# Altium schematic symbol library MySchLib.SchLib: 286 symbols (part 5 of 5)
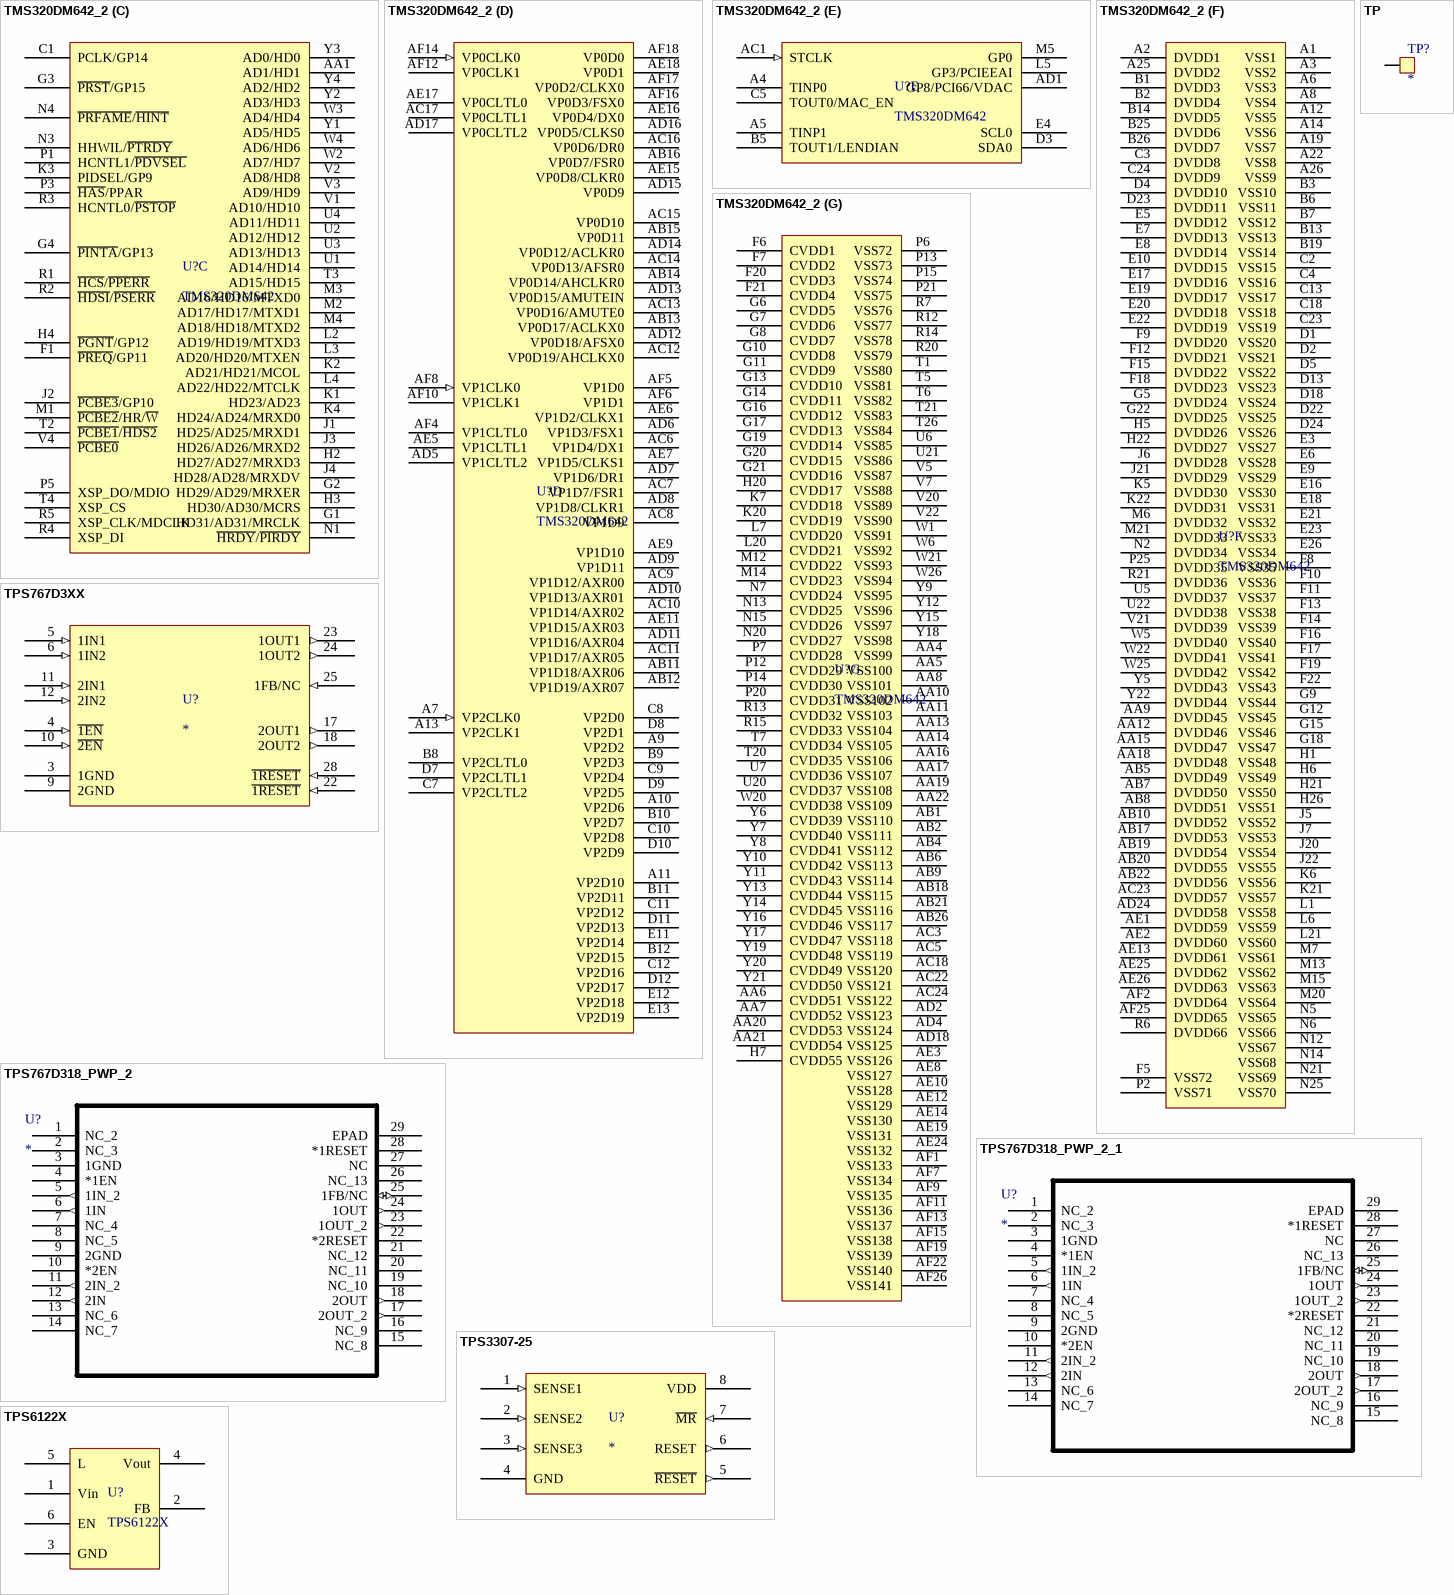
[diagram p33: symbols TMS320DM642_2 to TPS6122X]

## TMS320DM642_2
designator U?, comment TMS320DM642
footprint GDK (Footprint not found)
footprint GNZ (Footprint not found)
footprint ZDK (Footprint not found)
footprint ZNZ (Footprint not found)
footprint GDK548
part A pins: A15 EMU0, A16 TCK (in), A17 EMU7, A18 TDI (in), AA2 CLKMODE0 (in), AC2 CLKIN (in), AE4 CLKMODE1 (in), B4 NMI (in), B15 EMU2, B16 EMU5, B17 EMU9, B18 TDO (out), C6 CLKOUT6/GP2, C14 EMU1, C15 EMU3, C16 EMU6, C17 EMU10, D6 CLKOUT4/GP1, D14 ~{TRST} (in), D15 EMU4, D16 EMU8, D17 EMU11, E1 EXT_INT7/GP7, E2 PCIE_EN (in), E15 TMS (in), F2 EXT_INT6/GP6, F3 EXT_INT5/GP5, F4 EXT_INT4/GP4, P4 ~{REST} (in), V6 PLLV
part B pins: A20 AED13, A21 AED9, A23 AED5, A24 AED1, AA23 AED41, AA24 AED39, AA25 AED40, AA26 AED42, AB23 AED38, AB24 AED36, AB25 AED37, AC19 AED49, AC20 AED51, AC21 AED55, AC25 AED34, AC26 AED35, AD19 AED48, AD20 AED53, AD21 AED57, AD22 AED59, AD23 AED60, AD25 AED33, AD26 AED32, AE20 AED52, AE21 AED56, AE22 AED58, AE23 AED61, AF20 AED50, AF21 AED54, AF23 AED62, AF24 AED63, B20 AED11, B21 AED7, B22 AED3, B23 AED2, B24 AED0, C19 AED15, C20 AED10, C21 AED6, C22 AED4, C25 AED30, C26 AED31, D19 AED14, D20 AED12, D21 AED8, D25 AED28, D26 AED29, E24 AED27, E25 AED26, F23 AED23, F24 AED25, F25 AED24, F26 AED22, G23 AED19, G24 AED21, G25 AED20, G26 AED18, H23 AED17, H24 AED16, H25 AECLKIN (in), J23 AECLKOUT2, J24 ~{AAOE}/~{ASDRAS}/~{ASASOE}, J25 ~{AARE}/~{ASDCAS}/~{ASADS}/~{ASRE}, J26 AECLKOUT1, K23 ~{ACE2}, K24 ~{ACE1}, K25 ~{ACE0}, K26 ~{AAWE}/~{ASDWE}/~{ASWE}, L22 AARDY, L23 ~{ABE1}, L24 ~{ABE0}, L25 ASDCKE, L26 ~{ACE3}, M22 ~{APDT}, M23 AEA4, M24 AEA3, M25 ~{ABE3}, M26 ~{ABE2}, N22 ~{AHOLD}A, N23 AEA7, N24 AEA6, N26 AEA5, P22 ABUSREQ, P23 AEA10, P24 AEA9, P26 AEA8, R22 ~{ASOE3}, R23 AEA12, R24 AEA11, R25 ~{ABE5}, R26 ~{ABE4}, T22 ~{ABE7}, T23 ~{ABE6}, T24 AEA14, T25 AEA13, U23 AEA22, U24 AEA17, U25 AEA16, U26 AEA15, V23 AEA18, V24 AEA21, V25 AEA20, V26 AEA19, W23 AED47, W24 ~{AHOLD}, Y23 AED45, Y24 AED43, Y25 AED44, Y26 AED46
part C pins: AA1 AD1/HD1, C1 PCLK/GP14, F1 ~{PREQ}/GP11, G1 HD31/AD31/MRCLK, G2 HD29/AD29/MRXER, G3 ~{PRST}/GP15, G4 ~{PINTA}/GP13, H2 HD27/AD27/MRXD3, H3 HD30/AD30/MCRS, H4 ~{PGNT}/GP12, J1 HD25/AD25/MRXD1, J2 ~{PCBE3}/GP10, J3 HD26/AD26/MRXD2, J4 HD28/AD28/MRXDV, K1 HD23/AD23, K2 AD21/HD21/MCOL, K3 PIDSEL/GP9, K4 HD24/AD24/MRXD0, L2 AD19/HD19/MTXD3, L3 AD20/HD20/MTXEN, L4 AD22/HD22/MTCLK, M1 ~{PCBE2}/HR/~{W}, M2 AD17/HD17/MTXD1, M3 AD16/HD16/MTXD0, M4 AD18/HD18/MTXD2, N1 ~{HRDY}/~{PIRDY}, N3 HHWIL/~{PTRDY}, N4 ~{PRFAME}/~{HINT}, P1 HCNTL1/~{PDVSEL}, P3 ~{HAS}/PPAR, P5 XSP_DO/MDIO, R1 ~{HCS}/~{PPERR}, R2 ~{HDSI}/~{PSERR}, R3 HCNTL0/~{PSTOP}, R4 XSP_DI, R5 XSP_CLK/MDCLK, T2 ~{PCBE1}/~{HDS2}, T3 AD15/HD15, T4 XSP_CS, U1 AD14/HD14, U2 AD12/HD12, U3 AD13/HD13, U4 AD11/HD11, V1 AD10/HD10, V2 AD8/HD8, V3 AD9/HD9, V4 ~{PCBE0}, W2 AD7/HD7, W3 AD4/HD4, W4 AD6/HD6, Y1 AD5/HD5, Y2 AD3/HD3, Y3 AD0/HD0, Y4 AD2/HD2
part D pins: A7 VP2CLK0 (in), A9 VP2D2, A10 VP2D6, A11 VP2D10, A13 VP2CLK1, AB11 VP1D18/AXR06, AB12 VP1D19/AXR07, AB13 VP0D17/ACLKX0, AB14 VP0D14/AHCLKR0, AB15 VP0D11, AB16 VP0D7/FSR0, AC6 VP1D4/DX1, AC7 VP1D7/FSR1, AC8 VP1D9, AC9 VP1D12/AXR00, AC10 VP1D14/AXR02, AC11 VP1D17/AXR05, AC12 VP0D19/AHCLKX0, AC13 VP0D16/AMUTE0, AC14 VP0D13/AFSR0, AC15 VP0D10, AC16 VP0D6/DR0, AC17 VP0CLTL1, AD5 VP1CLTL2, AD6 VP1D3/FSX1, AD7 VP1D6/DR1, AD8 VP1D8/CLKR1, AD9 VP1D11, AD10 VP1D13/AXR01, AD11 VP1D16/AXR04, AD12 VP0D18/AFSX0, AD13 VP0D15/AMUTEIN, AD14 VP0D12/ACLKR0, AD15 VP0D9, AD16 VP0D5/CLKS0, AD17 VP0CLTL2, AE5 VP1CLTL1, AE6 VP1D2/CLKX1, AE7 VP1D5/CLKS1, AE9 VP1D10, AE11 VP1D15/AXR03, AE15 VP0D8/CLKR0, AE16 VP0D4/DX0, AE17 VP0CLTL0, AE18 VP0D1, AF4 VP1CLTL0, AF5 VP1D0, AF6 VP1D1, AF8 VP1CLK0 (in), AF10 VP1CLK1, AF12 VP0CLK1, AF14 VP0CLK0 (in), AF16 VP0D3/FSX0, AF17 VP0D2/CLKX0, AF18 VP0D0, B8 VP2CLTL0, B9 VP2D3, B10 VP2D7, B11 VP2D11, B12 VP2D15, C7 VP2CLTL2, C8 VP2D0, C9 VP2D4, C10 VP2D8, C11 VP2D12, C12 VP2D16, D7 VP2CLTL1, D8 VP2D1, D9 VP2D5, D10 VP2D9, D11 VP2D13, D12 VP2D17, E11 VP2D14, E12 VP2D18, E13 VP2D19
part E pins: A4 TINP0, A5 TINP1, AC1 STCLK (in), AD1 GP8/PCI66/VDAC, B5 TOUT1/LENDIAN, C5 TOUT0/MAC_EN, D3 SDA0, E4 SCL0, L5 GP3/PCIEEAI, M5 GP0
part F pins: A1 VSS1 (power), A2 DVDD1 (power), A3 VSS2 (power), A6 VSS3 (power), A8 VSS4 (power), A12 VSS5 (power), A14 VSS6 (power), A19 VSS7 (power), A22 VSS8 (power), A25 DVDD2 (power), A26 VSS9 (power), AA9 DVDD45 (power), AA12 DVDD46 (power), AA15 DVDD47 (power), AA18 DVDD48 (power), AB5 DVDD49 (power), AB7 DVDD50 (power), AB8 DVDD51 (power), AB10 DVDD52 (power), AB17 DVDD53 (power), AB19 DVDD54 (power), AB20 DVDD55 (power), AB22 DVDD56 (power), AC23 DVDD57 (power), AD24 DVDD58 (power), AE1 DVDD59 (power), AE2 DVDD60 (power), AE13 DVDD61 (power), AE25 DVDD62 (power), AE26 DVDD63 (power), AF2 DVDD64 (power), AF25 DVDD65 (power), B1 DVDD3 (power), B2 DVDD4 (power), B3 VSS10 (power), B6 VSS11 (power), B7 VSS12 (power), B13 VSS13 (power), B14 DVDD5 (power), B19 VSS14 (power), B25 DVDD6 (power), B26 DVDD7 (power), C2 VSS15 (power), C3 DVDD8 (power), C4 VSS16 (power), C13 VSS17 (power), C18 VSS18 (power), C23 VSS19 (power), C24 DVDD9 (power), D1 VSS20 (power), D2 VSS21 (power), D4 DVDD10 (power), D5 VSS22 (power), D13 VSS23 (power), D18 VSS24 (power), D22 VSS25 (power), D23 DVDD11 (power), D24 VSS26 (power), E3 VSS27 (power), E5 DVDD12 (power), E6 VSS28 (power), E7 DVDD13 (power), E8 DVDD14 (power), E9 VSS29 (power), E10 DVDD15 (power), E16 VSS30 (power), E17 DVDD16 (power), E18 VSS31 (power), E19 DVDD17 (power), E20 DVDD18 (power), E21 VSS32 (power), E22 DVDD19 (power), E23 VSS33 (power), E26 VSS34 (power), F5 VSS72 (power), F8 VSS35 (power), F9 DVDD20 (power), F10 VSS36 (power), F11 VSS37 (power), F12 DVDD21 (power), F13 VSS38 (power), F14 VSS39 (power), F15 DVDD22 (power), F16 VSS40 (power), F17 VSS41 (power), F18 DVDD23 (power), F19 VSS42 (power), F22 VSS43 (power), G5 DVDD24 (power), G9 VSS44 (power), G12 VSS45 (power), G15 VSS46 (power), G18 VSS47 (power), G22 DVDD25 (power), H1 VSS48 (power), H5 DVDD26 (power), H6 VSS49 (power), H21 VSS50 (power), H22 DVDD27 (power), H26 VSS51 (power), J5 VSS52 (power), J6 DVDD28 (power), J7 VSS53 (power), J20 VSS54 (power), J21 DVDD29 (power), J22 VSS55 (power), K5 DVDD30 (power), K6 VSS56 (power), K21 VSS57 (power), K22 DVDD31 (power), L1 VSS58 (power), L6 VSS59 (power), L21 VSS60 (power), M6 DVDD32 (power), M7 VSS61 (power), M13 VSS62 (power), M15 VSS63 (power), M20 VSS64 (power), M21 DVDD33 (power), N2 DVDD34 (power), N5 VSS65 (power), N6 VSS66 (power), N12 VSS67 (power), N14 VSS68 (power), N21 VSS69 (power), N25 VSS70 (power), P2 VSS71 (power), P25 DVDD35 (power), R6 DVDD66 (power), R21 DVDD36 (power), U5 DVDD37 (power), U22 DVDD38 (power), V21 DVDD39 (power), W5 DVDD40 (power), W22 DVDD41 (power), W25 DVDD42 (power), Y5 DVDD43 (power), Y22 DVDD44 (power)
part G pins: AA4 VSS99 (power), AA5 VSS100 (power), AA6 CVDD51 (power), AA7 CVDD52 (power), AA8 VSS101 (power), AA10 VSS102 (power), AA11 VSS103 (power), AA13 VSS104 (power), AA14 VSS105 (power), AA16 VSS106 (power), AA17 VSS107 (power), AA19 VSS108 (power), AA20 CVDD53 (power), AA21 CVDD54 (power), AA22 VSS109 (power), AB1 VSS110 (power), AB2 VSS111 (power), AB4 VSS112 (power), AB6 VSS113 (power), AB9 VSS114 (power), AB18 VSS115 (power), AB21 VSS116 (power), AB26 VSS117 (power), AC3 VSS118 (power), AC5 VSS119 (power), AC18 VSS120 (power), AC22 VSS121 (power), AC24 VSS122 (power), AD2 VSS123 (power), AD4 VSS124 (power), AD18 VSS125 (power), AE3 VSS126 (power), AE8 VSS127 (power), AE10 VSS128 (power), AE12 VSS129 (power), AE14 VSS130 (power), AE19 VSS131 (power), AE24 VSS132 (power), AF1 VSS133 (power), AF7 VSS134 (power), AF9 VSS135 (power), AF11 VSS136 (power), AF13 VSS137 (power), AF15 VSS138 (power), AF19 VSS139 (power), AF22 VSS140 (power), AF26 VSS141 (power), F6 CVDD1, F7 CVDD2, F20 CVDD3 (power), F21 CVDD4 (power), G6 CVDD5 (power), G7 CVDD6 (power), G8 CVDD7 (power), G10 CVDD8 (power), G11 CVDD9 (power), G13 CVDD10 (power), G14 CVDD11 (power), G16 CVDD12 (power), G17 CVDD13 (power), G19 CVDD14 (power), G20 CVDD15 (power), G21 CVDD16 (power), H7 CVDD55 (power), H20 CVDD17 (power), K7 CVDD18 (power), K20 CVDD19 (power), L7 CVDD20 (power), L20 CVDD21 (power), M12 CVDD22 (power), M14 CVDD23 (power), N7 CVDD24 (power), N13 CVDD25 (power), N15 CVDD26 (power), N20 CVDD27 (power), P6 VSS72 (power), P7 CVDD28 (power), P12 CVDD29 (power), P13 VSS73 (power), P14 CVDD30 (power), P15 VSS74 (power), P20 CVDD31 (power), P21 VSS75 (power), R7 VSS76 (power), R12 VSS77 (power), R13 CVDD32 (power), R14 VSS78 (power), R15 CVDD33 (power), R20 VSS79 (power), T1 VSS80 (power), T5 VSS81 (power), T6 VSS82 (power), T7 CVDD34 (power), T20 CVDD35 (power), T21 VSS83 (power), T26 VSS84 (power), U6 VSS85 (power), U7 CVDD36 (power), U20 CVDD37 (power), U21 VSS86 (power), V5 VSS87 (power), V7 VSS88 (power), V20 VSS89 (power), V22 VSS90 (power), W1 VSS91 (power), W6 VSS92 (power), W20 CVDD38 (power), W21 VSS93 (power), W26 VSS94 (power), Y6 CVDD39 (power), Y7 CVDD40 (power), Y8 CVDD41 (power), Y9 VSS95 (power), Y10 CVDD42 (power), Y11 CVDD43 (power), Y12 VSS96 (power), Y13 CVDD44 (power), Y14 CVDD45 (power), Y15 VSS97 (power), Y16 CVDD46 (power), Y17 CVDD47 (power), Y18 VSS98 (power), Y19 CVDD48 (power), Y20 CVDD49 (power), Y21 CVDD50 (power)

## TP
designator TP?
Test Point
footprint TP (Footprint not found)
pins: 1

## TPS767D3XX
designator U?
footprint PWP-SSOP28 (Footprint not found)
pins: 3 1GND (power), 4 ~{1EN} (in), 5 1IN1 (in), 6 1IN2 (in), 9 2GND (power), 10 ~{2EN} (in), 11 2IN1 (in), 12 2IN2 (in), 17 2OUT1 (out), 18 2OUT2 (out), 22 ~{1RESET} (in), 23 1OUT1 (out), 24 1OUT2 (out), 25 1FB/NC (in), 28 ~{1RESET} (in)

## TPS767D318_PWP_2
designator U?
Imported
footprint PWP28_6P46X2P4
pins: 1 NC_2, 2 NC_3, 3 1GND (power), 4 *1EN, 5 1IN_2 (out), 6 1IN (out), 7 NC_4, 8 NC_5, 9 2GND (power), 10 *2EN, 11 2IN_2 (out), 12 2IN (out), 13 NC_6, 14 NC_7, 15 NC_8, 16 NC_9, 17 2OUT_2 (out), 18 2OUT (out), 19 NC_10, 20 NC_11, 21 NC_12, 22 *2RESET, 23 1OUT_2 (out), 24 1OUT (out), 25 1FB/NC (io), 26 NC_13, 27 NC, 28 *1RESET, 29 EPAD

## TPS767D318_PWP_2_1
designator U?
Imported
footprint PWP28_6P46X2P4
pins: 1 NC_2, 2 NC_3, 3 1GND (power), 4 *1EN, 5 1IN_2 (out), 6 1IN (out), 7 NC_4, 8 NC_5, 9 2GND (power), 10 *2EN, 11 2IN_2 (out), 12 2IN (out), 13 NC_6, 14 NC_7, 15 NC_8, 16 NC_9, 17 2OUT_2 (out), 18 2OUT (out), 19 NC_10, 20 NC_11, 21 NC_12, 22 *2RESET, 23 1OUT_2 (out), 24 1OUT (out), 25 1FB/NC (io), 26 NC_13, 27 NC, 28 *1RESET, 29 EPAD

## TPS3307-25
designator U?
footprint SOP-8
pins: 1 SENSE1 (in), 2 SENSE2 (in), 3 SENSE3 (in), 4 GND (power), 5 ~{RESET} (out), 6 RESET (out), 7 ~{MR} (in), 8 VDD (power)

## TPS6122X
designator U?
footprint SSOP-6 (Footprint not found)
pins: 1 Vin, 2 FB, 3 GND, 4 Vout, 5 L, 6 EN

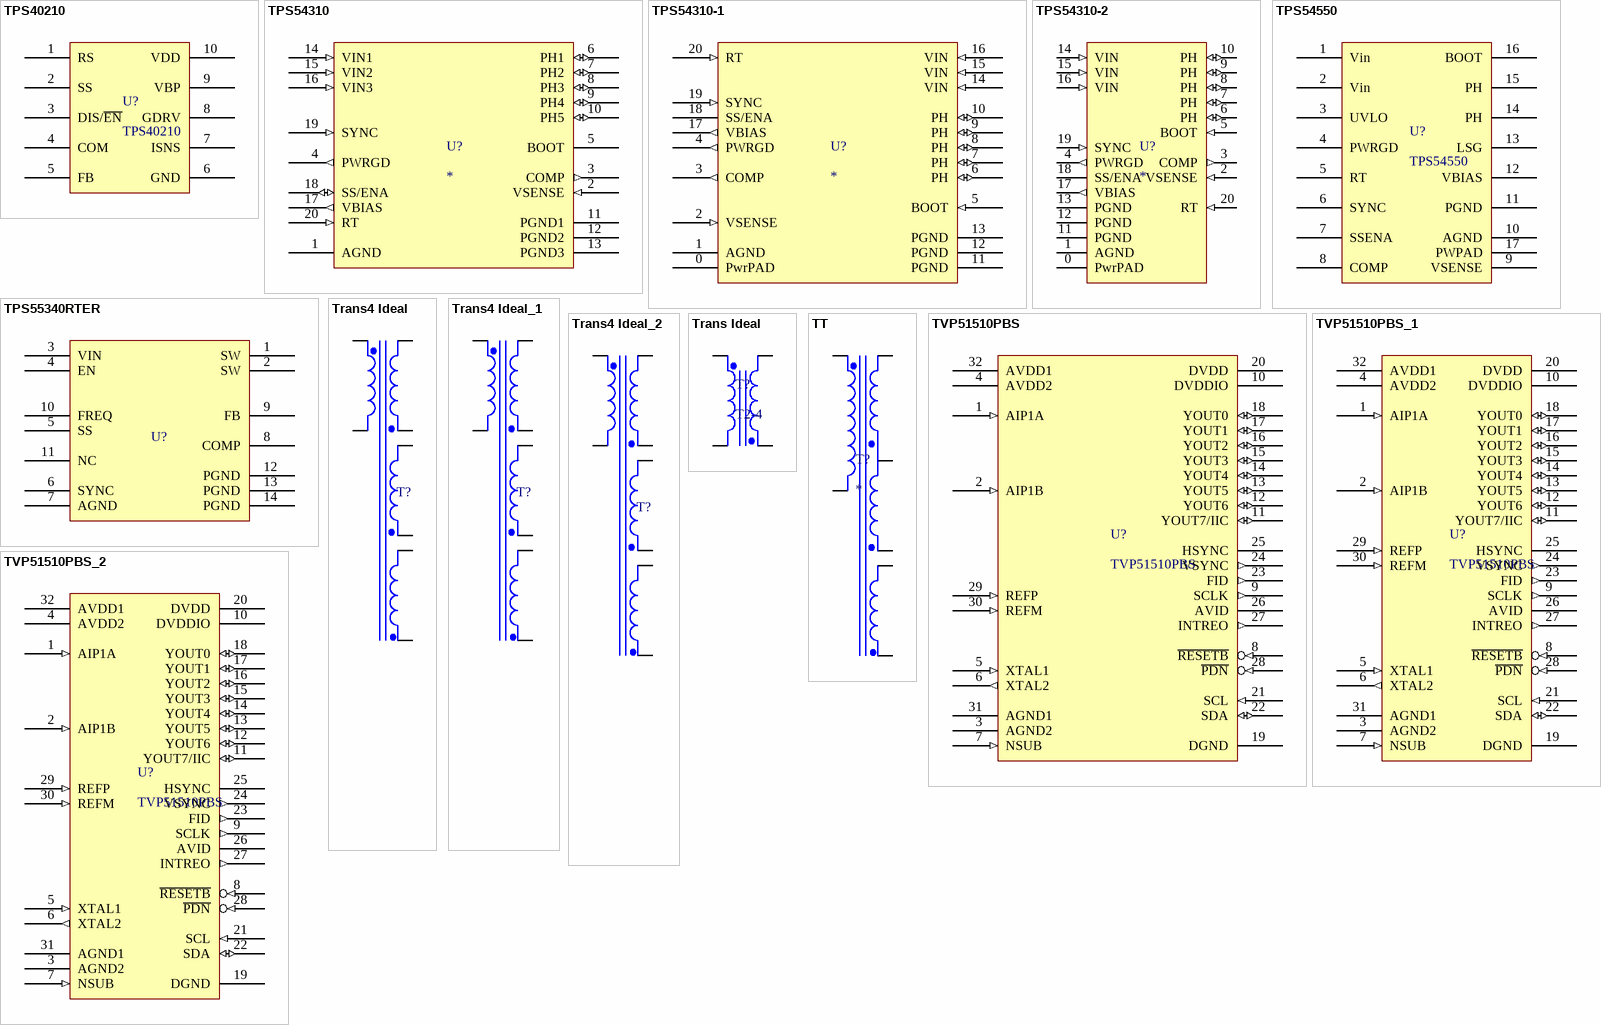
[diagram p28: symbols TPS40210 to TVP51510PBS_2]

## TPS40210
designator U?
footprint SSOP10 (Footprint not found)
footprint TSSOP10 (Footprint not found)
pins: 1 RS, 2 SS, 3 DIS/~{EN}, 4 COM, 5 FB, 6 GND, 7 ISNS, 8 GDRV, 9 VBP, 10 VDD

## TPS54310
designator U?
footprint PWP-SSOP-20
pins: 1 AGND (power), 2 VSENSE (in), 3 COMP (out), 4 PWRGD (out), 5 BOOT, 6 PH1 (io), 7 PH2 (io), 8 PH3 (io), 9 PH4 (io), 10 PH5 (io), 11 PGND1 (power), 12 PGND2 (power), 13 PGND3 (power), 14 VIN1 (in), 15 VIN2 (in), 16 VIN3 (in), 17 VBIAS (out), 18 SS/ENA (io), 19 SYNC (in), 20 RT (in)

## TPS54310-1
designator U?
footprint PWP-SSOP-20
pins: 0 PwrPAD (power), 1 AGND (power), 2 VSENSE (in), 3 COMP (out), 4 PWRGD (out), 5 BOOT (in), 6 PH (io), 7 PH (io), 8 PH (io), 9 PH (io), 10 PH (io), 11 PGND (power), 12 PGND (power), 13 PGND (power), 14 VIN (in), 15 VIN (in), 16 VIN (in), 17 VBIAS (out), 18 SS/ENA, 19 SYNC (in), 20 RT (in)

## TPS54310-2
designator U?
footprint PWP-SSOP-20
pins: 0 PwrPAD (power), 1 AGND (power), 2 VSENSE (in), 3 COMP (out), 4 PWRGD (out), 5 BOOT (in), 6 PH (io), 7 PH (io), 8 PH (io), 9 PH (io), 10 PH (io), 11 PGND (power), 12 PGND (power), 13 PGND (power), 14 VIN (in), 15 VIN (in), 16 VIN (in), 17 VBIAS (out), 18 SS/ENA, 19 SYNC (in), 20 RT (in)

## TPS54550
designator U?
footprint PWP-SSOP-20
pins: 1 Vin "VI3 接口的数据DAT0", 2 Vin "VI3 接口的数据DAT0", 3 UVLO "VI3 接口的数据DAT0", 4 PWRGD "VI3 接口的数据DAT0", 5 RT "VI3 接口的数据DAT0", 6 SYNC "VI3 接口的数据DAT0", 7 SSENA "VI3 接口的数据DAT0", 8 COMP "VI3 接口的数据DAT0", 9 VSENSE "VI3 接口的数据DAT0", 10 AGND "VI3 接口的数据DAT0", 11 PGND "VI3 接口的数据DAT0", 12 VBIAS "VI3 接口的数据DAT0", 13 LSG "VI3 接口的数据DAT0", 14 PH "VI3 接口的数据DAT0", 15 PH "VI3 接口的数据DAT0", 16 BOOT "VI3 接口的数据DAT0", 17 PWPAD "VI3 接口的数据DAT0"

## TPS55340RTER
designator U?  (value not drawn)
Manufacturer Name: Texas Instruments; Value: UNLISTED; Manufacturer Part Number: TPS55340RTER
footprint TSSOP-14
pins: 1 SW, 2 SW, 3 VIN, 4 EN, 5 SS, 6 SYNC, 7 AGND, 8 COMP, 9 FB, 10 FREQ, 11 NC, 12 PGND, 13 PGND, 14 PGND

## Trans4 Ideal
designator T?
Four-winding Transformer (Ideal); Published: 25-Jan-2001; LatestRevisionDate: 17-Jul-2002; LatestRevisionNote: Re-released for DXP Platform.; PackageReference: TRF_8; Publisher: Altium Limited
footprint TRF_8 (Four-winding Transformer (Ideal); 8 Leads)
simulation model IDEAL4W (Spice Subcircuit)
pins: 1 Pri+, 2 Pri-, 3 Sec1+, 4 Sec1-, 5 Sec2+, 6 Sec2-, 7 Sec3+, 8 Sec3-

## Trans4 Ideal_1
designator T?
Four-winding Transformer (Ideal); Published: 25-Jan-2001; LatestRevisionDate: 17-Jul-2002; LatestRevisionNote: Re-released for DXP Platform.; PackageReference: TRF_8; Publisher: Altium Limited
footprint TRF_8 (Four-winding Transformer (Ideal); 8 Leads)
simulation model IDEAL4W (Spice Subcircuit)
pins: 1 Pri+, 2 Pri-, 3 Sec1+, 4 Sec1-, 5 Sec2+, 6 Sec2-, 7 Sec3+, 8 Sec3-

## Trans4 Ideal_2
designator T?
Four-winding Transformer (Ideal); Published: 25-Jan-2001; LatestRevisionDate: 17-Jul-2002; LatestRevisionNote: Re-released for DXP Platform.; PackageReference: TRF_8; Publisher: Altium Limited
footprint TRF_8 (Four-winding Transformer (Ideal); 8 Leads)
simulation model IDEAL4W (Spice Subcircuit)
pins: 1 Pri+, 2 Pri-, 3 Sec1+, 4 Sec1-, 5 Sec2+, 6 Sec2-, 7 Sec3+, 8 Sec3-

## Trans Ideal
designator T?, comment T2-4
pins: 1 Pri+, 2 Pri-, 3 Sec+, 4 Sec-

## TT
designator T?
pins: 1 Pri+, 2 Pri-, 3 Sec1+, 4 Sec1-, 6 Sec2-, 7 Sec3+, 8 Sec3-

## TVP51510PBS
designator U?
TVP5150PBS Ultralow-Power  NTSC/PAL Video Decoder
pins: 1 AIP1A (in), 2 AIP1B (in), 3 AGND2 (power), 4 AVDD2 (power), 5 XTAL1 (in), 6 XTAL2 (out), 7 NSUB (in), 8 ~{RESETB} (in), 9 SCLK (out), 10 DVDDIO (power), 11 YOUT7/IIC (io), 12 YOUT6 (io), 13 YOUT5 (io), 14 YOUT4 (io), 15 YOUT3 (io), 16 YOUT2 (io), 17 YOUT1 (io), 18 YOUT0 (io), 19 DGND (power), 20 DVDD (power), 21 SCL (in), 22 SDA (io), 23 FID (out), 24 VSYNC (out), 25 HSYNC (power), 26 AVID, 27 INTREO (out), 28 ~{PDN} (in), 29 REFP (in), 30 REFM (in), 31 AGND1 (power), 32 AVDD1 (power)

## TVP51510PBS_1
designator U?, comment TVP51510PBS
TVP5150PBS Ultralow-Power  NTSC/PAL Video Decoder
pins: 1 AIP1A (in), 2 AIP1B (in), 3 AGND2 (power), 4 AVDD2 (power), 5 XTAL1 (in), 6 XTAL2 (out), 7 NSUB (in), 8 ~{RESETB} (in), 9 SCLK (out), 10 DVDDIO (power), 11 YOUT7/IIC (io), 12 YOUT6 (io), 13 YOUT5 (io), 14 YOUT4 (io), 15 YOUT3 (io), 16 YOUT2 (io), 17 YOUT1 (io), 18 YOUT0 (io), 19 DGND (power), 20 DVDD (power), 21 SCL (in), 22 SDA (io), 23 FID (out), 24 VSYNC (out), 25 HSYNC (power), 26 AVID, 27 INTREO (out), 28 ~{PDN} (in), 29 REFP (in), 30 REFM (in), 31 AGND1 (power), 32 AVDD1 (power)

## TVP51510PBS_2
designator U?, comment TVP51510PBS
TVP5150PBS Ultralow-Power  NTSC/PAL Video Decoder
pins: 1 AIP1A (in), 2 AIP1B (in), 3 AGND2 (power), 4 AVDD2 (power), 5 XTAL1 (in), 6 XTAL2 (out), 7 NSUB (in), 8 ~{RESETB} (in), 9 SCLK (out), 10 DVDDIO (power), 11 YOUT7/IIC (io), 12 YOUT6 (io), 13 YOUT5 (io), 14 YOUT4 (io), 15 YOUT3 (io), 16 YOUT2 (io), 17 YOUT1 (io), 18 YOUT0 (io), 19 DGND (power), 20 DVDD (power), 21 SCL (in), 22 SDA (io), 23 FID (out), 24 VSYNC (out), 25 HSYNC (power), 26 AVID, 27 INTREO (out), 28 ~{PDN} (in), 29 REFP (in), 30 REFM (in), 31 AGND1 (power), 32 AVDD1 (power)

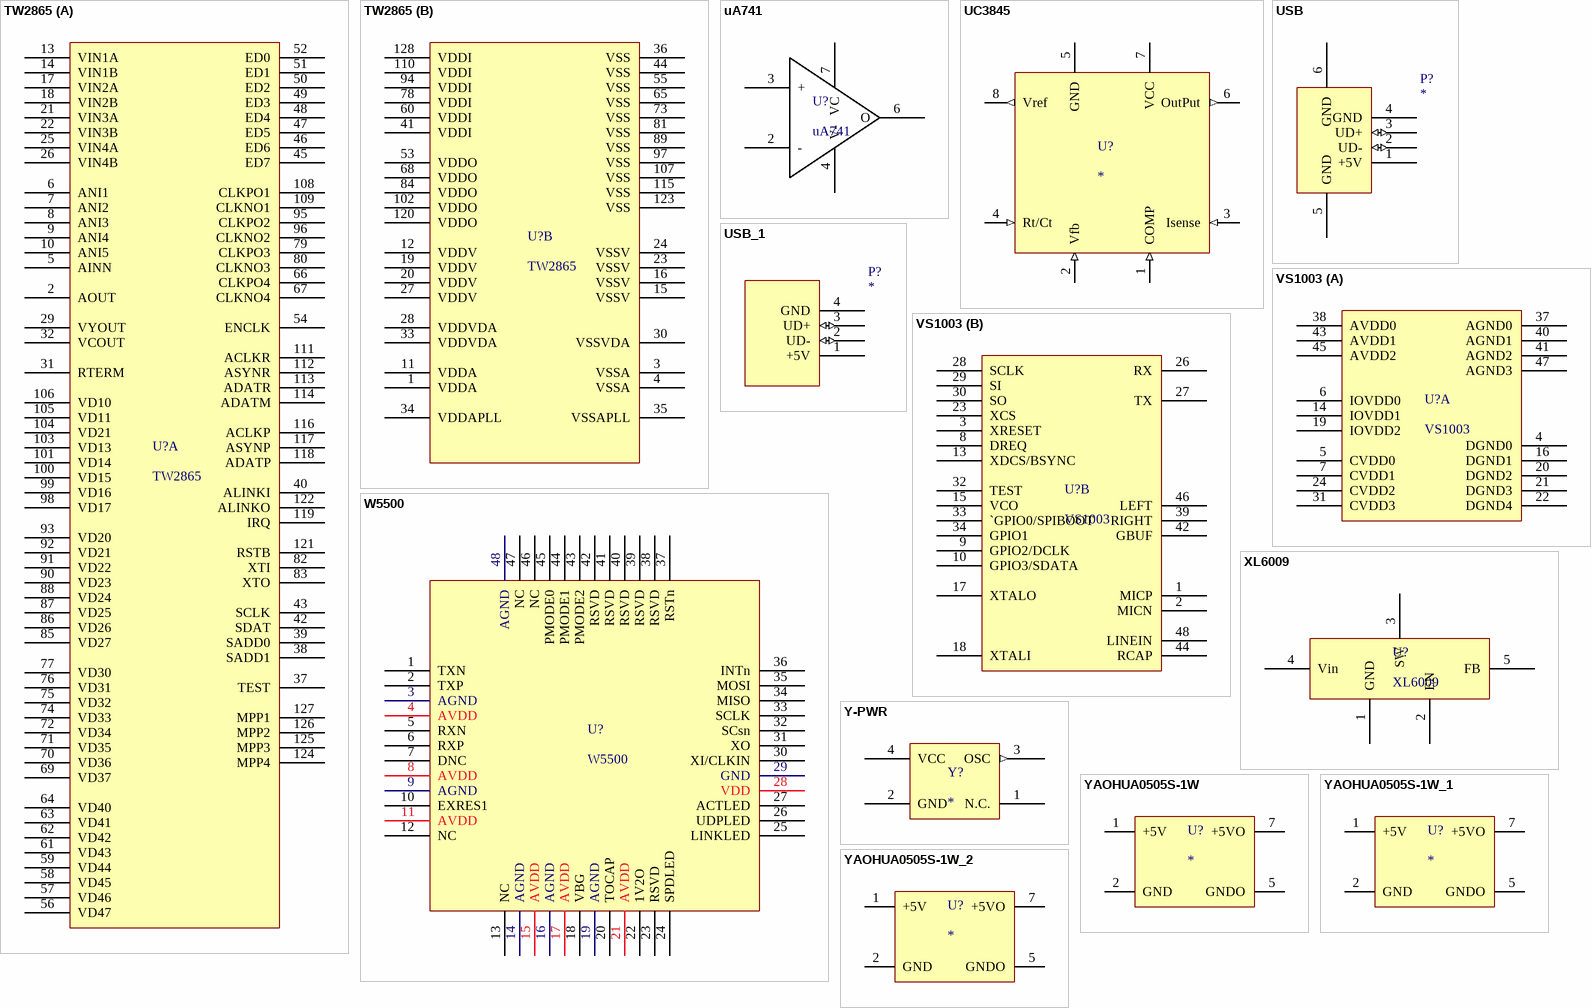
[diagram p29: symbols TW2865 to YAOHUA0505S-1W_2]

## TW2865
designator U?
footprint LQFP128 (Footprint not found)
part A pins: 2 AOUT, 5 AINN, 6 ANI1, 7 ANI2, 8 ANI3, 9 ANI4, 10 ANI5, 13 VIN1A, 14 VIN1B, 17 VIN2A , 18 VIN2B, 21 VIN3A, 22 VIN3B, 25 VIN4A, 26 VIN4B, 29 VYOUT, 31 RTERM, 32 VCOUT, 37 TEST, 38 SADD1, 39 SADD0, 40 ALINKI, 42 SDAT, 43 SCLK, 45 ED7, 46 ED6, 47 ED5, 48 ED4, 49 ED3, 50 ED2, 51 ED1, 52 ED0, 54 ENCLK, 56 VD47, 57 VD46, 58 VD45, 59 VD44, 61 VD43, 62 VD42, 63 VD41, 64 VD40, 66 CLKPO4, 67 CLKNO4, 69 VD37, 70 VD36, 71 VD35, 72 VD34, 74 VD33, 75 VD32, 76 VD31, 77 VD30, 79 CLKPO3, 80 CLKNO3, 82 XTI, 83 XTO, 85 VD27, 86 VD26, 87 VD25, 88 VD24, 90 VD23, 91 VD22, 92 VD21, 93 VD20, 95 CLKPO2, 96 CLKNO2, 98 VD17, 99 VD16, 100 VD15, 101 VD14, 103 VD13, 104 VD21, 105 VD11, 106 VD10, 108 CLKPO1, 109 CLKNO1, 111 ACLKR, 112 ASYNR, 113 ADATR, 114 ADATM, 116 ACLKP, 117 ASYNP, 118 ADATP, 119 IRQ, 121 RSTB, 122 ALINKO, 124 MPP4, 125 MPP3, 126 MPP2, 127 MPP1
part B pins: 1 VDDA, 3 VSSA, 4 VSSA, 11 VDDA, 12 VDDV, 15 VSSV, 16 VSSV, 19 VDDV, 20 VDDV, 23 VSSV, 24 VSSV, 27 VDDV, 28 VDDVDA, 30 VSSVDA, 33 VDDVDA, 34 VDDAPLL, 35 VSSAPLL, 36 VSS, 41 VDDI, 44 VSS, 53 VDDO, 55 VSS, 60 VDDI, 65 VSS, 68 VDDO, 73 VSS, 78 VDDI, 81 VSS, 84 VDDO, 89 VSS, 94 VDDI, 97 VSS, 102 VDDO, 107 VSS, 110 VDDI, 115 VSS, 120 VDDO, 123 VSS, 128 VDDI

## uA741
designator U?
footprint SOP-8
pins: 1 hidden, 2 -, 3 +, 4 V-, 5 hidden, 6 O, 7 VC, 8 hidden

## UC3845
designator U?
footprint SOIC-8 (Footprint not found)
pins: 1 COMP (in), 2 Vfb (in), 3 Isense (in), 4 Rt/Ct (in), 5 GND (power), 6 OutPut (out), 7 VCC (power), 8 Vref (out)

## USB
designator P?
USB Port
footprint USBA
footprint USBB
pins: 1 +5V (power), 2 UD- (io), 3 UD+ (io), 4 GND (power), 5 GND (power), 6 GND (power)

## USB_1
designator P?
USB Port
footprint USBA
footprint USBB
pins: 1 +5V (power), 2 UD- (io), 3 UD+ (io), 4 GND (power), 5 GND (power) hidden, 6 GND (power) hidden

## VS1003
designator U?
footprint LQFP-48 (Footprint not found)
part A pins: 4 DGND0, 5 CVDD0, 6 IOVDD0, 7 CVDD1, 14 IOVDD1, 16 DGND1, 19 IOVDD2, 20 DGND2, 21 DGND3, 22 DGND4, 24 CVDD2, 31 CVDD3, 37 AGND0, 38 AVDD0, 40 AGND1, 41 AGND2, 43 AVDD1, 45 AVDD2, 47 AGND3
part B pins: 1 MICP, 2 MICN, 3 XRESET, 8 DREQ, 9 GPIO2/DCLK, 10 GPIO3/SDATA, 13 XDCS/BSYNC, 15 VCO, 17 XTALO, 18 XTALI, 23 XCS, 26 RX, 27 TX, 28 SCLK, 29 SI, 30 SO, 32 TEST, 33 `GPIO0/SPIBOOT, 34 GPIO1, 39 RIGHT, 42 GBUF, 44 RCAP, 46 LEFT, 48 LINEIN

## W5500
designator U?
footprint LQFP-48
pins: 1 TXN, 2 TXP, 3 AGND, 4 AVDD, 5 RXN, 6 RXP, 7 DNC, 8 AVDD, 9 AGND, 10 EXRES1, 11 AVDD, 12 NC, 13 NC, 14 AGND, 15 AVDD, 16 AGND, 17 AVDD, 18 VBG, 19 AGND, 20 TOCAP, 21 AVDD, 22 1V2O, 23 RSVD, 24 SPDLED, 25 LINKLED, 26 UDPLED, 27 ACTLED, 28 VDD, 29 GND, 30 XI/CLKIN, 31 XO, 32 SCsn, 33 SCLK, 34 MISO, 35 MOSI, 36 INTn, 37 RSTn, 38 RSVD, 39 RSVD, 40 RSVD, 41 RSVD, 42 RSVD, 43 PMODE2, 44 PMODE1, 45 PMODE0, 46 NC, 47 NC, 48 AGND

## XL6009
designator U?
footprint TO-263
pins: 1 GND, 2 EN, 3 SW, 4 Vin, 5 FB

## Y-PWR
designator Y?
footprint Y-PWR (Footprint not found)
pins: 1 N.C., 2 GND (power), 3 OSC (out), 4 VCC (power)

## YAOHUA0505S-1W
designator U?
footprint YAOHUA05S05-1W
pins: 1 +5V (power), 2 GND (power), 5 GNDO (power), 7 +5VO

## YAOHUA0505S-1W_1
designator U?
footprint YAOHUA05S05-1W
pins: 1 +5V (power), 2 GND (power), 5 GNDO (power), 7 +5VO

## YAOHUA0505S-1W_2
designator U?
footprint YAOHUA05S05-1W
pins: 1 +5V (power), 2 GND (power), 5 GNDO (power), 7 +5VO